# Altium footprint library SOC_Carrier.PcbLib: 9 footprints
Each footprint in its own frame and in the unit in brackets; x right, y up, seen from the top. Pads: shape width x height; smd on the part's side, far side on the other; paste and mask are expansions set on the pad; w line width, h text height; cw(c..) or ccw(c..) is an arc to the next point about the centre after c.
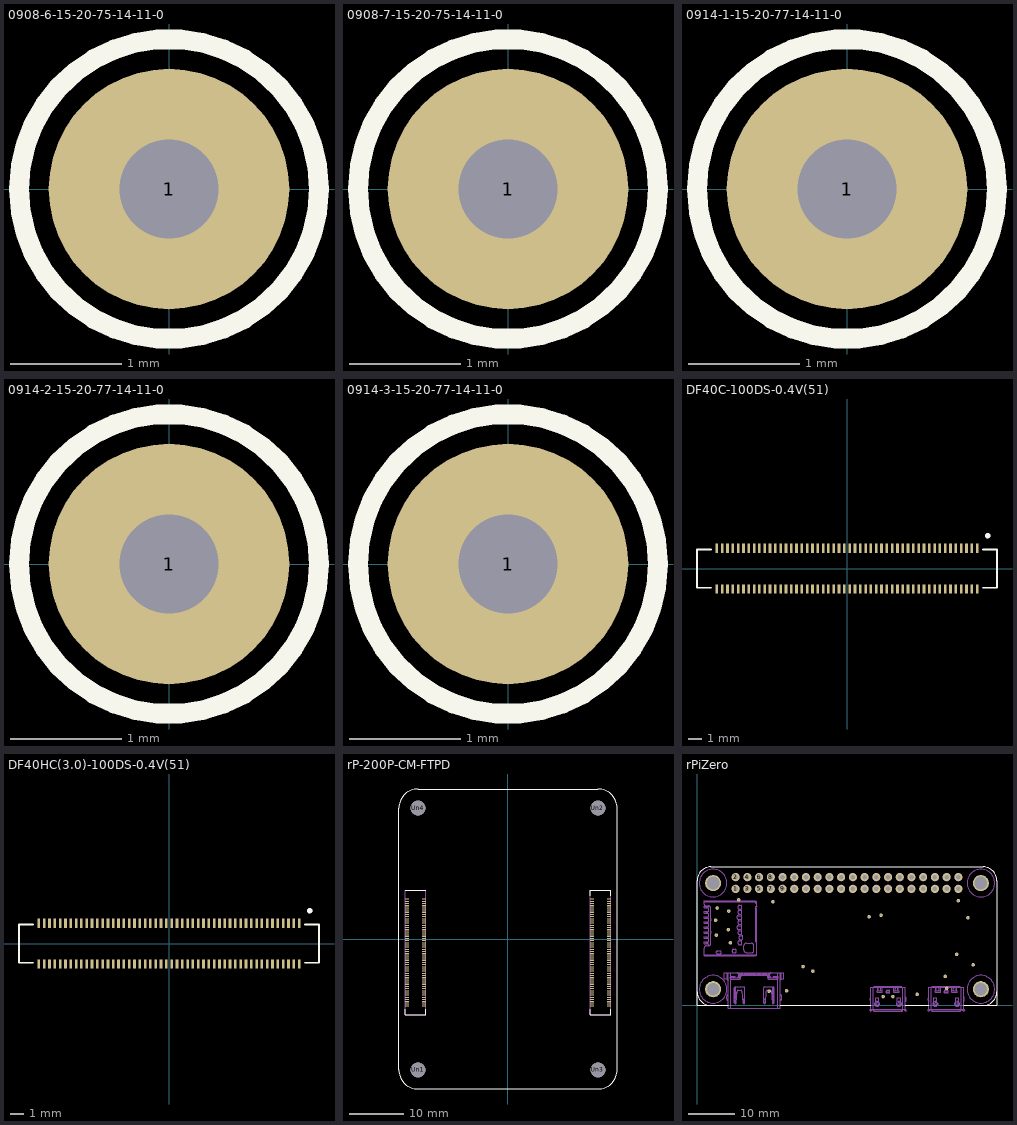
[diagram p0: the footprints below, top view; thin cyan lines are the x and y axes]

## 0908-6-15-20-75-14-11-0 [mil] ".370\", 0.055\" Stroke"
pads (1):
  round 85 hole 35: 1(0,0)
Top Overlay:
  circle w7: c0,0 r53.01
3D body "mill-max-0908-6-15-20-75-14-11-0.step": height 371, standoff -68, extent -35.74,-36 35.74,36

## 0908-7-15-20-75-14-11-0 [mil] ".390\", 0.055\" Stroke"
pads (1):
  round 85 hole 35: 1(0,0)
Top Overlay:
  circle w7: c0,0 r53.01
3D body "mill-max-0908-7-15-20-75-14-11-0.step": height 391, standoff -68, extent -35.74,-36 35.74,36

## 0914-1-15-20-77-14-11-0 [mil] ".304\"+0.016\" flange + 0.028\" riser, 0.09\" Stroke"
pads (1):
  round 85 hole 35: 1(0,0)
Top Overlay:
  circle w7: c0,0 r53.01
3D body "mill-max-0914-1-15-20-77-14-11-0.step": height 332, standoff -115, extent -36,-35.74 36,35.74

## 0914-2-15-20-77-14-11-0 [mil] ".334\"+0.016\" flange + 0.028\" riser, 0.09\" Stroke"
pads (1):
  round 85 hole 35: 1(0,0)
Top Overlay:
  circle w7: c0,0 r53.01
3D body "mill-max-0914-2-15-20-77-14-11-0.step": height 362, standoff -115, extent -36,-35.74 36,35.74

## 0914-3-15-20-77-14-11-0 [mil] ".364\"+0.016\" flange + 0.028\" riser, 0.09\" Stroke"
pads (1):
  round 85 hole 35: 1(0,0)
Top Overlay:
  circle w7: c0,0 r53.01
3D body "mill-max-0914-3-15-20-77-14-11-0.step": height 392, standoff -115, extent -36,-35.74 36,35.74

## DF40C-100DS-0.4V(51) [mm] "Hirose 100pos RCPT (Short)"
height 1.65
pads (100):
  rect 0.2x0.7 smd paste-1: 1(9.8,1.54) 2(9.8,-1.54) 3(9.4,1.54) 4(9.4,-1.54) 5(9,1.54) 6(9,-1.54) 7(8.6,1.54) 8(8.6,-1.54) 9(8.2,1.54) 10(8.2,-1.54) 11(7.8,1.54) 12(7.8,-1.54) 13(7.4,1.54) 14(7.4,-1.54) 15(7,1.54) 16(7,-1.54) 17(6.6,1.54) 18(6.6,-1.54) 19(6.2,1.54) 20(6.2,-1.54) 21(5.8,1.54) 22(5.8,-1.54) 23(5.4,1.54) 24(5.4,-1.54) 25(5,1.54) 26(5,-1.54) 27(4.6,1.54) 28(4.6,-1.54) 29(4.2,1.54) 30(4.2,-1.54) 31(3.8,1.54) 32(3.8,-1.54) 33(3.4,1.54) 34(3.4,-1.54) 35(3,1.54) 36(3,-1.54) 37(2.6,1.54) 38(2.6,-1.54) 39(2.2,1.54) 40(2.2,-1.54) 41(1.8,1.54) 42(1.8,-1.54) 43(1.4,1.54) 44(1.4,-1.54) 45(1,1.54) 46(1,-1.54) 47(0.6,1.54) 48(0.6,-1.54) 49(0.2,1.54) 50(0.2,-1.54) 51(-0.2,1.54) 52(-0.2,-1.54) 53(-0.6,1.54) 54(-0.6,-1.54) 55(-1,1.54) 56(-1,-1.54) 57(-1.4,1.54) 58(-1.4,-1.54) 59(-1.8,1.54) 60(-1.8,-1.54) 61(-2.2,1.54) 62(-2.2,-1.54) 63(-2.6,1.54) 64(-2.6,-1.54) 65(-3,1.54) 66(-3,-1.54) 67(-3.4,1.54) 68(-3.4,-1.54) 69(-3.8,1.54) 70(-3.8,-1.54) 71(-4.2,1.54) 72(-4.2,-1.54) 73(-4.6,1.54) 74(-4.6,-1.54) 75(-5,1.54) 76(-5,-1.54) 77(-5.4,1.54) 78(-5.4,-1.54) 79(-5.8,1.54) 80(-5.8,-1.54) 81(-6.2,1.54) 82(-6.2,-1.54) 83(-6.6,1.54) 84(-6.6,-1.54) 85(-7,1.54) 86(-7,-1.54) 87(-7.4,1.54) 88(-7.4,-1.54) 89(-7.8,1.54) 90(-7.8,-1.54) 91(-8.2,1.54) 92(-8.2,-1.54) 93(-8.6,1.54) 94(-8.6,-1.54) 95(-9,1.54) 96(-9,-1.54) 97(-9.4,1.54) 98(-9.4,-1.54) 99(-9.8,1.54) 100(-9.8,-1.54)
Top Overlay:
  circle w0.2: c10.6,2.48 r0.1
  lines w0.127: -10.22,-1.44 -11.3,-1.44 -11.3,1.44 -10.22,1.44 ; 10.22,-1.44 11.3,-1.44 11.3,1.44 10.22,1.44
Top Paste:
  drawing of 100 lines, arcs and shapes, not listed
Mechanical 13:
  circle w0.2: c10.6,2.48 r0.1
3D body "step_temp.STEP": height 1.6, standoff -0.05, extent -11.3,-1.69 11.3,1.69

## DF40HC(3.0)-100DS-0.4V(51) [mm] "Hirose 100pos RCPT (Tall)"
height 1.65
pads (100):
  rect 0.2x0.7 smd paste-1: 1(9.8,1.54) 2(9.8,-1.54) 3(9.4,1.54) 4(9.4,-1.54) 5(9,1.54) 6(9,-1.54) 7(8.6,1.54) 8(8.6,-1.54) 9(8.2,1.54) 10(8.2,-1.54) 11(7.8,1.54) 12(7.8,-1.54) 13(7.4,1.54) 14(7.4,-1.54) 15(7,1.54) 16(7,-1.54) 17(6.6,1.54) 18(6.6,-1.54) 19(6.2,1.54) 20(6.2,-1.54) 21(5.8,1.54) 22(5.8,-1.54) 23(5.4,1.54) 24(5.4,-1.54) 25(5,1.54) 26(5,-1.54) 27(4.6,1.54) 28(4.6,-1.54) 29(4.2,1.54) 30(4.2,-1.54) 31(3.8,1.54) 32(3.8,-1.54) 33(3.4,1.54) 34(3.4,-1.54) 35(3,1.54) 36(3,-1.54) 37(2.6,1.54) 38(2.6,-1.54) 39(2.2,1.54) 40(2.2,-1.54) 41(1.8,1.54) 42(1.8,-1.54) 43(1.4,1.54) 44(1.4,-1.54) 45(1,1.54) 46(1,-1.54) 47(0.6,1.54) 48(0.6,-1.54) 49(0.2,1.54) 50(0.2,-1.54) 51(-0.2,1.54) 52(-0.2,-1.54) 53(-0.6,1.54) 54(-0.6,-1.54) 55(-1,1.54) 56(-1,-1.54) 57(-1.4,1.54) 58(-1.4,-1.54) 59(-1.8,1.54) 60(-1.8,-1.54) 61(-2.2,1.54) 62(-2.2,-1.54) 63(-2.6,1.54) 64(-2.6,-1.54) 65(-3,1.54) 66(-3,-1.54) 67(-3.4,1.54) 68(-3.4,-1.54) 69(-3.8,1.54) 70(-3.8,-1.54) 71(-4.2,1.54) 72(-4.2,-1.54) 73(-4.6,1.54) 74(-4.6,-1.54) 75(-5,1.54) 76(-5,-1.54) 77(-5.4,1.54) 78(-5.4,-1.54) 79(-5.8,1.54) 80(-5.8,-1.54) 81(-6.2,1.54) 82(-6.2,-1.54) 83(-6.6,1.54) 84(-6.6,-1.54) 85(-7,1.54) 86(-7,-1.54) 87(-7.4,1.54) 88(-7.4,-1.54) 89(-7.8,1.54) 90(-7.8,-1.54) 91(-8.2,1.54) 92(-8.2,-1.54) 93(-8.6,1.54) 94(-8.6,-1.54) 95(-9,1.54) 96(-9,-1.54) 97(-9.4,1.54) 98(-9.4,-1.54) 99(-9.8,1.54) 100(-9.8,-1.54)
Top Overlay:
  circle w0.2: c10.6,2.48 r0.1
  lines w0.127: -10.22,-1.44 -11.3,-1.44 -11.3,1.44 -10.22,1.44 ; 10.22,-1.44 11.3,-1.44 11.3,1.44 10.22,1.44
Top Paste:
  drawing of 100 lines, arcs and shapes, not listed
Mechanical 13:
  circle w0.2: c10.6,2.48 r0.1
3D body "DF40HC(3.0)-100DS-0.4V.stp": height 2.9, standoff 0, extent -11.313,-1.69 11.287,1.69

## rP-200P-CM-FTPD [mm] "Landing-Pad for 200-pin compute modules"
pads (204):
  rect 0.7x0.2 smd mask+0: 1(-18.5,7.3) 2(-15.42,7.3) 3(-18.5,6.9) 4(-15.42,6.9) 5(-18.5,6.5) 6(-15.42,6.5) 7(-18.5,6.1) 8(-15.42,6.1) 9(-18.5,5.7) 10(-15.42,5.7) 11(-18.5,5.3) 12(-15.42,5.3) 13(-18.5,4.9) 14(-15.42,4.9) 15(-18.5,4.5) 16(-15.42,4.5) 17(-18.5,4.1) 18(-15.42,4.1) 19(-18.5,3.7) 20(-15.42,3.7) 21(-18.5,3.3) 22(-15.42,3.3) 23(-18.5,2.9) 24(-15.42,2.9) 25(-18.5,2.5) 26(-15.42,2.5) 27(-18.5,2.1) 28(-15.42,2.1) 29(-18.5,1.7) 30(-15.42,1.7) 31(-18.5,1.3) 32(-15.42,1.3) 33(-18.5,0.9) 34(-15.42,0.9) 35(-18.5,0.5) 36(-15.42,0.5) 37(-18.5,0.1) 38(-15.42,0.1) 39(-18.5,-0.3) 40(-15.42,-0.3) 41(-18.5,-0.7) 42(-15.42,-0.7) 43(-18.5,-1.1) 44(-15.42,-1.1) 45(-18.5,-1.5) 46(-15.42,-1.5) 47(-18.5,-1.9) 48(-15.42,-1.9) 49(-18.5,-2.3) 50(-15.42,-2.3) 51(-18.5,-2.7) 52(-15.42,-2.7) 53(-18.5,-3.1) 54(-15.42,-3.1) 55(-18.5,-3.5) 56(-15.42,-3.5) 57(-18.5,-3.9) 58(-15.42,-3.9) 59(-18.5,-4.3) 60(-15.42,-4.3) 61(-18.5,-4.7) 62(-15.42,-4.7) 63(-18.5,-5.1) 64(-15.42,-5.1) 65(-18.5,-5.5) 66(-15.42,-5.5) 67(-18.5,-5.9) 68(-15.42,-5.9) 69(-18.5,-6.3) 70(-15.42,-6.3) 71(-18.5,-6.7) 72(-15.42,-6.7) 73(-18.5,-7.1) 74(-15.42,-7.1) 75(-18.5,-7.5) 76(-15.42,-7.5) 77(-18.5,-7.9) 78(-15.42,-7.9) 79(-18.5,-8.3) 80(-15.42,-8.3) 81(-18.5,-8.7) 82(-15.42,-8.7) 83(-18.5,-9.1) 84(-15.42,-9.1) 85(-18.5,-9.5) 86(-15.42,-9.5) 87(-18.5,-9.9) 88(-15.42,-9.9) 89(-18.5,-10.3) 90(-15.42,-10.3) 91(-18.5,-10.7) 92(-15.42,-10.7) 93(-18.5,-11.1) 94(-15.42,-11.1) 95(-18.5,-11.5) 96(-15.42,-11.5) 97(-18.5,-11.9) 98(-15.42,-11.9) 99(-18.5,-12.3) 100(-15.42,-12.3) 101(15.42,7.3) 102(18.5,7.3) 103(15.42,6.9) 104(18.5,6.9) 105(15.42,6.5) 106(18.5,6.5) 107(15.42,6.1) 108(18.5,6.1) 109(15.42,5.7) 110(18.5,5.7) 111(15.42,5.3) 112(18.5,5.3) 113(15.42,4.9) 114(18.5,4.9) 115(15.42,4.5) 116(18.5,4.5) 117(15.42,4.1) 118(18.5,4.1) 119(15.42,3.7) 120(18.5,3.7) 121(15.42,3.3) 122(18.5,3.3) 123(15.42,2.9) 124(18.5,2.9) 125(15.42,2.5) 126(18.5,2.5) 127(15.42,2.1) 128(18.5,2.1) 129(15.42,1.7) 130(18.5,1.7) 131(15.42,1.3) 132(18.5,1.3) 133(15.42,0.9) 134(18.5,0.9) 135(15.42,0.5) 136(18.5,0.5) 137(15.42,0.1) 138(18.5,0.1) 139(15.42,-0.3) 140(18.5,-0.3) 141(15.42,-0.7) 142(18.5,-0.7) 143(15.42,-1.1) 144(18.5,-1.1) 145(15.42,-1.5) 146(18.5,-1.5) 147(15.42,-1.9) 148(18.5,-1.9) 149(15.42,-2.3) 150(18.5,-2.3) 151(15.42,-2.7) 152(18.5,-2.7) 153(15.42,-3.1) 154(18.5,-3.1) 155(15.42,-3.5) 156(18.5,-3.5) 157(15.42,-3.9) 158(18.5,-3.9) 159(15.42,-4.3) 160(18.5,-4.3) 161(15.42,-4.7) 162(18.5,-4.7) 163(15.42,-5.1) 164(18.5,-5.1) 165(15.42,-5.5) 166(18.5,-5.5) 167(15.42,-5.9) 168(18.5,-5.9) 169(15.42,-6.3) 170(18.5,-6.3) 171(15.42,-6.7) 172(18.5,-6.7) 173(15.42,-7.1) 174(18.5,-7.1) 175(15.42,-7.5) 176(18.5,-7.5) 177(15.42,-7.9) 178(18.5,-7.9) 179(15.42,-8.3) 180(18.5,-8.3) 181(15.42,-8.7) 182(18.5,-8.7) 183(15.42,-9.1) 184(18.5,-9.1) 185(15.42,-9.5) 186(18.5,-9.5) 187(15.42,-9.9) 188(18.5,-9.9) 189(15.42,-10.3) 190(18.5,-10.3) 191(15.42,-10.7) 192(18.5,-10.7) 193(15.42,-11.1) 194(18.5,-11.1) 195(15.42,-11.5) 196(18.5,-11.5) 197(15.42,-11.9) 198(18.5,-11.9) 199(15.42,-12.3) 200(18.5,-12.3)
  round 2.7 hole 2.7 paste-2.7 mask+1.7: Un1(-16.5,-24) Un2(16.5,24) Un3(16.5,-24) Un4(-16.5,24)
Top Overlay:
  lines w0.12: -18.85,-12.9 -18.85,-13.9 -15.07,-13.9 -15.07,-12.9 ; -18.85,8.9 -15.07,8.9 ; 15.07,-12.9 15.07,-13.9 18.85,-13.9 18.85,-12.9 ; 15.07,7.9 15.07,8.9 18.85,8.9 18.85,7.9 ; -20,-24 ccw(c-16.5,-24) -16.5,-27.5 16.5,-27.5 ccw(c16.5,-24) 20,-24 20,24 ccw(c16.5,24) 16.5,27.5 -16.5,27.5 ccw(c-16.5,24) -20,24 -20,-24
Mechanical 12:
  lines w0.12: -18.85,-13.9 -15.07,-13.9 -15.07,8.9 -18.85,8.9 -18.85,-13.9 ; 15.07,-13.9 18.85,-13.9 18.85,8.9 15.07,8.9 15.07,-13.9

## rPiZero [mm] "Raspberry Pi Zero2W landing pad pinout, debug, pads"
pads (67):
  round 1.75 hole 1: 1(8.37,25.248) 2(8.37,27.788) 3(10.91,25.248) 4(10.91,27.788) 5(13.45,25.248) 6(13.45,27.788) 7(15.99,25.248) 8(15.99,27.788) 9(18.53,25.248) 10(18.53,27.788) 11(21.07,25.248) 12(21.07,27.788) 13(23.61,25.248) 14(23.61,27.788) 15(26.15,25.248) 16(26.15,27.788) 17(28.69,25.248) 18(28.69,27.788) 19(31.23,25.248) 20(31.23,27.788) 21(33.77,25.248) 22(33.77,27.788) 23(36.31,25.248) 24(36.31,27.788) 25(38.85,25.248) 26(38.85,27.788) 27(41.39,25.248) 28(41.39,27.788) 29(43.93,25.248) 30(43.93,27.788) 31(46.47,25.248) 32(46.47,27.788) 33(49.01,25.248) 34(49.01,27.788) 35(51.55,25.248) 36(51.55,27.788) 37(54.09,25.248) 38(54.09,27.788) 39(56.63,25.248) 40(56.63,27.788)
  round 0.762 hole 0.3: 1V8(22.97,8.42) 3V3(16.45,22.44) 5V1(56.25,11.05) 5V2(53.79,6.3) BT_ON(39.87,19.55) CORE(58.7,18.98) G1(54.1,3.69) G2(47.71,2.41) G3(15.61,3.05) G4(9.01,22.87) OTG(25.1,7.42) RUN(56.63,22.69) SD_CLK(4.05,18.45) SD_CMD(6.8,16.42) SD_DAT0(6.87,20.42) SD_DAT1(4.35,21.1) SD_DAT2(7.22,13.57) SD_DAT3(4.2,15.22) STATUS(59.85,8.8) TV(19.42,3.17) USB_DM(40.32,1.92) USB_DP(42.45,1.92) WL_ON(37.3,19.2)
  round 3.5 hole 2.75 mask+1.5: MNT1(3.5,26.5) MNT2(3.5,3.5) MNT3(61.5,26.5) MNT4(61.5,3.5)
Top Overlay:
  lines w0.013: 0,3 ccw(c3,3) 3,0 ; 6.8,0 0,0 0,27 cw(c3,27) 3,30 62,30 cw(c62,27) 65,27 65,0 57.75,0 ; 18,0 37.65,0 ; 45.15,0 50.25,0 ; 62,0 ccw(c62,3) 65,3
Mechanical 1:
  drawing of 976 lines, arcs and shapes, not listed